# Altium schematic symbol library UJ20-C-H-G-MSMT-R-4C-P16-TR.SchLib: 1 symbol
Pins are listed as number, name and electrical type; pins without a type are passive.

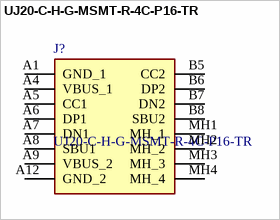
[diagram p0: symbol UJ20-C-H-G-MSMT-R-4C-P16-TR]

## UJ20-C-H-G-MSMT-R-4C-P16-TR
designator J?
UJ20-C-H-G-MSMT-R-4C-P16-TR - Type C, USB 2.0, 480 Mbps, 20 Vdc, 3 A, Horizontal, Mid Mount SMT, SMT Contacts, Gold Flash, Recessed Lip, 16 Pins, Ultra Low Profile 1.56mm, USB Receptacle; Manufacturer_Name: Same Sky; Geometry.Height: 3.36mm; Mouser Part Number: *; Mouser Price/Stock: *; Manufacturer_Part_Number: UJ20-C-H-G-MSMT-R-4C-P16-TR; Datasheet Link: https://www.sameskydevices.com/product/resource/uj20-c-h-g-msmt-r-4c-p16-tr.pdf
footprint UJ20CHGMSMTR4CP16TR
pins: A1 GND_1, A4 VBUS_1, A5 CC1, A6 DP1, A7 DN1, A8 SBU1, A9 VBUS_2, A12 GND_2, B5 CC2, B6 DP2, B7 DN2, B8 SBU2, MH1 MH_1, MH2 MH_2, MH3 MH_3, MH4 MH_4